# Altium schematic symbol library TLV61047DDCR.SchLib: 1 symbol
Pins are listed as number, name and electrical type; pins without a type are passive.

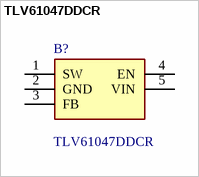
[diagram p0: symbol TLV61047DDCR]

## TLV61047DDCR
designator B?
Switching Voltage Regulators 20VIN, 28VOUT, 2.2A non-synchronous boost converter with SOT23-5 DDC package; Manufacturer_Name: Texas Instruments; Geometry.Height: 1.1mm; Manufacturer_Part_Number: TLV61047DDCR; Mouser Part Number: *; Mouser Price/Stock: *; Arrow Part Number: *; Arrow Price/Stock: *; Datasheet Link: https://www.ti.com/lit/ds/symlink/tlv61047.pdf?ts=1744891624532&ref_url=https%253A%252F%252Fwww.ti.com%252Fcompare-products%252F%253Fid%253D360082%2526type%253DGPT%2526partList%253DTLV61047%252CTLV61048%252CTLV61046A%252CTPS61096A%2526columnList%253D-2%25
footprint SOT95P280X110-5N
pins: 1 SW, 2 GND, 3 FB, 4 EN, 5 VIN